# EAGLE library part IC_MBI5026 (library dp_devices)
16-Bit Constant Current LED Sink Driver
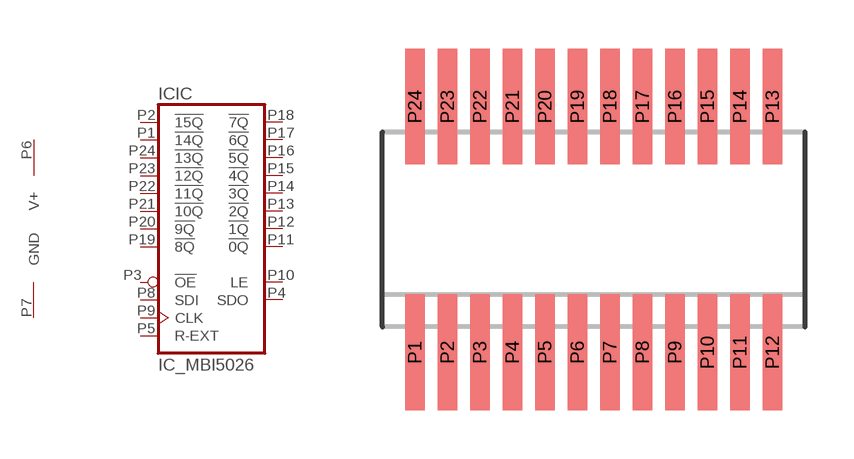
[diagram p141: symbol with the pads of SOIC-24-01; footprint SOIC-24-01]

Designator prefix IC; gates IC=MBI5026 SUP=SUPPLY

## IC_MBI5026-GF  [SOIC-24-01]
P1  IC:!14Q  in
P2  IC:!15Q  in
P3  IC:!OE  in
P4  IC:SDO  out
P5  IC:R-EXT  in
P6  SUP:V+  sup
P7  SUP:GND  sup
P8  IC:SDI  in
P9  IC:CLK  in
P10  IC:LE  in
P11  IC:!0Q  in
P12  IC:!1Q  in
P13  IC:!2Q  in
P14  IC:!3Q  in
P15  IC:!4Q  in
P16  IC:!5Q  in
P17  IC:!6Q  in
P18  IC:!7Q  in
P19  IC:!8Q  in
P20  IC:!9Q  in
P21  IC:!10Q  in
P22  IC:!11Q  in
P23  IC:!12Q  in
P24  IC:!13Q  in

## Footprint SOIC-24-01 (pad centres in mm)
SOP-24-01 Pad size: 0.6 x 3.56 mm Pad pitch: 1.00mm Pad pitch lateral: 7.56mm
smd 0.6 x 3.56: P1 -5.5,-3.78; P2 -4.5,-3.78; P3 -3.5,-3.78; P4 -2.5,-3.78; P5 -1.5,-3.78; P6 -0.5,-3.78; P7 0.5,-3.78; P8 1.5,-3.78; P9 2.5,-3.78; P10 3.5,-3.78; P11 4.5,-3.78; P12 5.5,-3.78; P13 5.5,3.78; P14 4.5,3.78; P15 3.5,3.78; P16 2.5,3.78; P17 1.5,3.78; P18 0.5,3.78; P19 -0.5,3.78; P20 -1.5,3.78; P21 -2.5,3.78; P22 -3.5,3.78; P23 -4.5,3.78; P24 -5.5,3.78